# Altium integrated library 4_Pin_Header.IntLib: 1 symbol
Pins are listed as number, name and electrical type; pins without a type are passive.

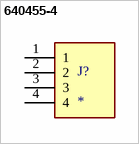
[diagram p0: symbol 640455-4]

## 640455-4
designator J?
MTA-100 HEADER - TIN, 04P MTA100 HDR ASSY SQ R/A POL | TE Connectivity 640455-4; SnapEDA_Link: https://www.snapeda.com/parts/640455-4/TE+Connectivity+AMP+Connectors/view-part/?ref=snap; Package: None; Value: *; MF: TE Connectivity; MP: 640455-4; Check_prices: https://www.snapeda.com/parts/640455-4/TE+Connectivity+AMP+Connectors/view-part/?ref=eda
footprint TE_640455-4
pins: 1, 2, 3, 4